# Altium footprint library ResCap_smd.PcbLib: 21 footprints (part 1 of 2)
Each footprint in its own frame and in the unit in brackets; x right, y up, seen from the top. Pads: shape width x height; smd on the part's side, far side on the other; paste and mask are expansions set on the pad; w line width, h text height; cw(c..) or ccw(c..) is an arc to the next point about the centre after c.
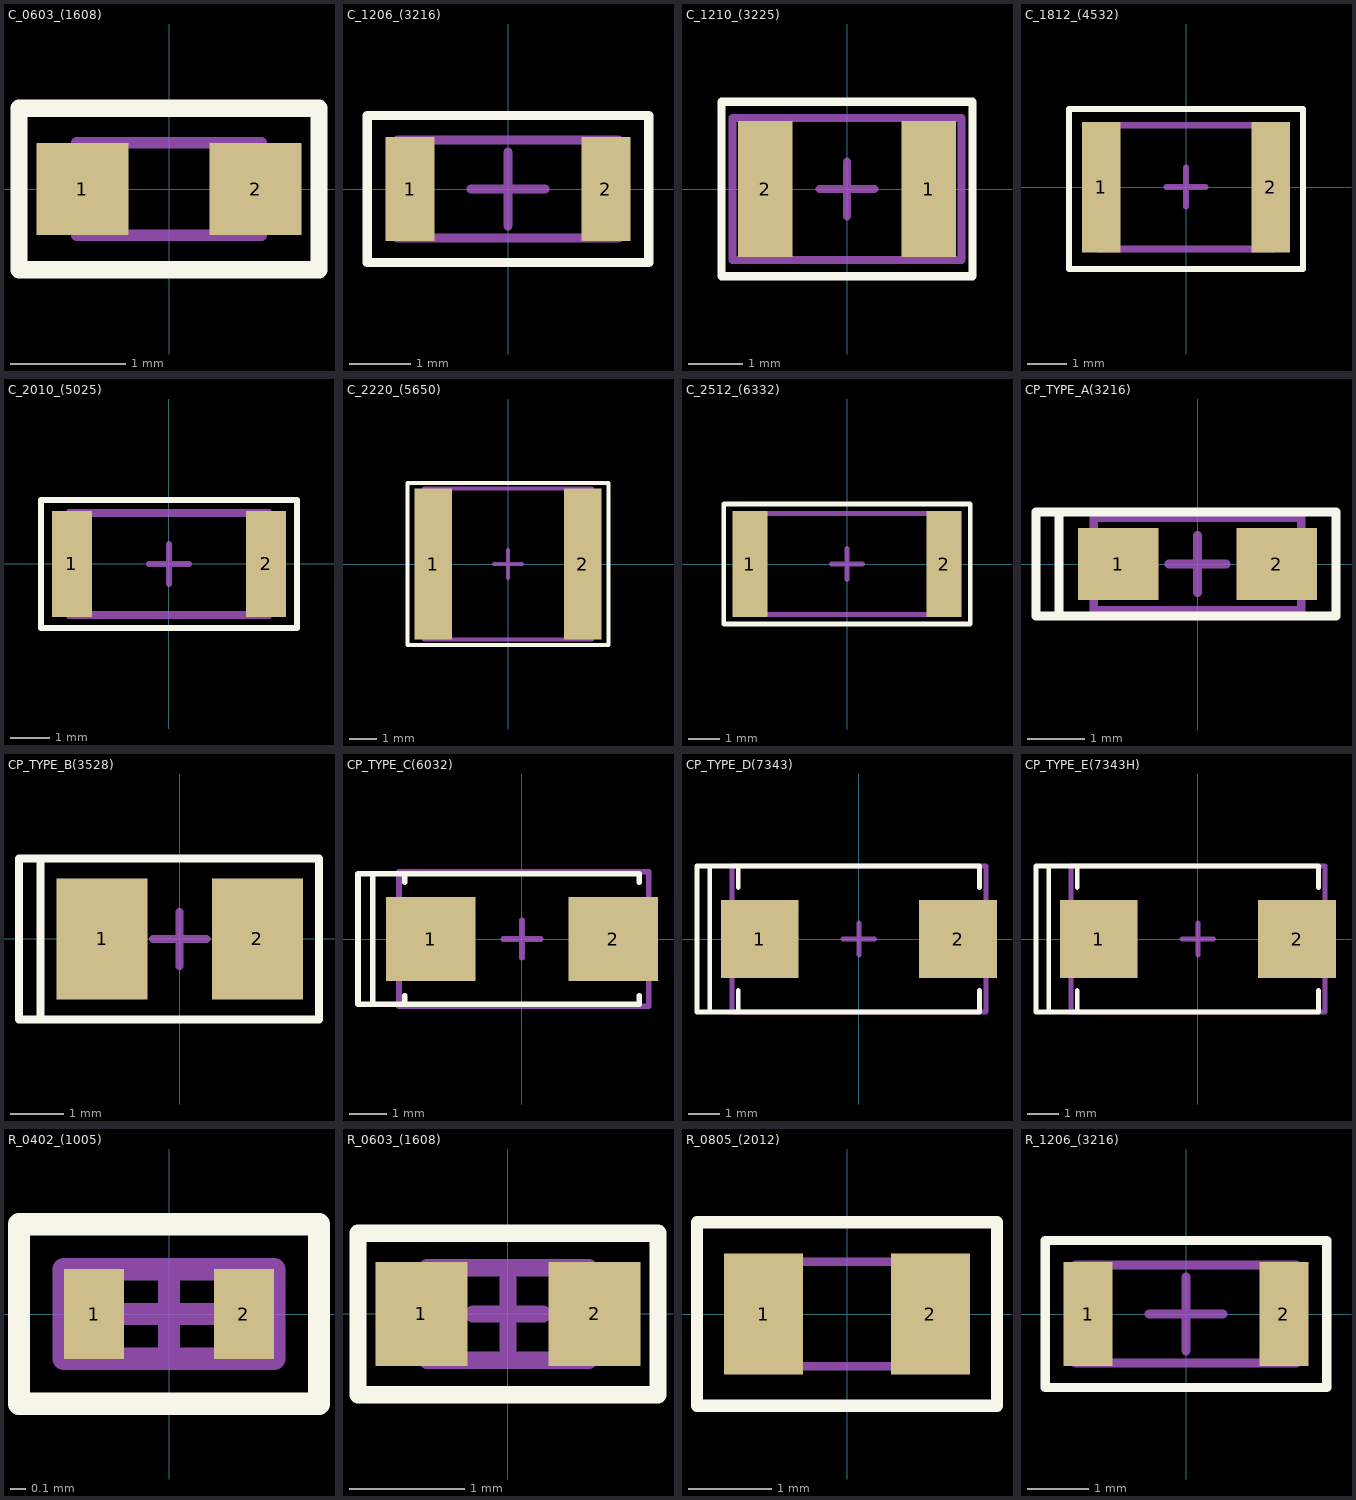
[diagram p0: the footprints below, top view; thin cyan lines are the x and y axes]

## C_0603_(1608) [mm]
pads (2):
  rect 0.8x0.8 smd: 1(-0.75,0) 2(0.75,0)
Top Overlay:
  lines w0.15: -1.3,-0.7 -1.3,0.7 1.3,0.7 1.3,-0.7 -1.3,-0.7
Mechanical 13:
  lines w0.1: -0.8,-0.4 -0.8,0.4 0.8,0.4 0.8,-0.4 -0.8,-0.4
3D body "VJ0603A2R7CCPAJ.stp": height 0.97, standoff 0, extent -0.8,-0.4 0.8,0.4

## C_1206_(3216) [mm]
pads (2):
  rect 0.8x1.7 smd: 1(-1.6,0) 2(1.6,0)
Top Overlay:
  lines w0.15: -2.3,-1.2 -2.3,1.2 2.2,1.2 2.3,1.2 2.3,-1.2 -2.3,-1.2
Top 3D Body:
  lines w0.15: -0.6,0 0.6,0 ; 0,-0.6 0,0.6 ; -1.8,-0.8 1.8,-0.8 1.8,0.8 -1.8,0.8 -1.8,-0.8
3D body: height 0.8, standoff 0, extent 0.9,-0.8 1.7,0.8
3D body: height 0.8, standoff 0, extent -0.9,-0.8 0.9,0.8
3D body: height 0.8, standoff 0, extent -1.7,-0.8 -0.9,0.8

## C_1210_(3225) [mm]
pads (2):
  rect 1x2.5 smd: 1(1.5,0) 2(-1.5,0)
Top Overlay:
  lines w0.15: -2.3,-1.6 2.3,-1.6 2.3,1.6 -2.3,1.6 -2.3,-1.6
Top 3D Body:
  lines w0.15: -0.5,0 0.5,0 ; 0,-0.5 0,0.5 ; -2.1,-1.3 2.1,-1.3 2.1,1.3 -2.1,1.3 -2.1,-1.3
3D body: height 1.6, standoff 0, extent 0.9,-1.3 2,1.3
3D body: height 1.6, standoff 0, extent -0.9,-1.3 0.9,1.3
3D body: height 1.6, standoff 0, extent -2,-1.3 -0.9,1.3

## C_1812_(4532) [mm]
pads (2):
  rect 1x3.35 smd: 1(-2.175,0) 2(2.175,0)
Top Overlay:
  lines w0.15: -3,-2.1 3,-2.1 3,2 -3,2 -3,-2.1
Top 3D Body:
  lines w0.15: -0.5,0 0.5,0 ; 0,-0.5 0,0.5 ; -2.3,-1.575 2.3,-1.575 2.3,1.575 -2.3,1.575 -2.3,-1.575
Mechanical 29:
  lines w0.15: -2.25,-1.6 2.25,-1.6 2.25,1.6 -2.25,1.6 -2.25,-1.6
  text ".Designator" at -2,-0.4 h1
3D body "C1812C.step": height 1, standoff 0, extent -2.25,-1.6 2.25,1.6

## C_2010_(5025) [mm]
pads (2):
  rect 1x2.65 smd: 1(-2.425,0) 2(2.425,0)
Top Overlay:
  lines w0.15: -3.2,-1.6 -3.2,1.6 3.2,1.6 3.2,-1.6 -3.2,-1.6
Top 3D Body:
  lines w0.15: -0.5,0 0.5,0 ; 0,-0.5 0,0.5 ; -2.5,-1.3 2.5,-1.3 2.5,1.3 -2.5,1.3 -2.5,-1.3
Mechanical 29:
  lines w0.15: -2.5,-1.25 2.5,-1.25 2.5,1.25 -2.5,1.25 -2.5,-1.25
  text ".Designator" at -2.2,-0.3 h1
3D body "C2010C.step": height 0.55, standoff 0, extent -2.5,-1.25 2.5,1.25

## C_2220_(5650) [mm]
pads (2):
  rect 1.35x5.4 smd: 1(-2.675,0) 2(2.675,0)
Top Overlay:
  lines w0.15: -3.6,-2.9 3.6,-2.9 3.6,2.9 -3.6,2.9 -3.6,-2.9
Top 3D Body:
  lines w0.15: -0.5,0 0.5,0 ; 0,-0.5 0,0.5 ; -3,-2.7 -3,2.7 3,2.7 3,-2.7 -3,-2.7
Mechanical 29:
  lines w0.15: -3,-2.7 -3,2.7 3,2.7 3,-2.7 -3,-2.7
  text ".Designator" at -2.5,-0.4 h1
3D body "C2220C.step": height 2.5, standoff 0, extent -3,-2.7 3,2.7

## C_2512_(6332) [mm]
pads (2):
  rect 1.1x3.35 smd: 1(-3.075,0) 2(3.075,0)
Top Overlay:
  lines w0.15: -3.9,-1.9 3.9,-1.9 3.9,1.9 -3.9,1.9 -3.9,-1.9
Top 3D Body:
  lines w0.15: -0.5,0 0.5,0 ; 0,-0.5 0,0.5 ; -3.2,-1.6 3.2,-1.6 3.2,1.6 -3.2,1.6 -3.2,-1.6
Mechanical 29:
  lines w0.15: -3.2,-1.6 3.2,-1.6 3.2,1.6 -3.2,1.6 -3.2,-1.6
  text ".Designator" at -2.6,-0.3 h1
3D body "C2512C.step": height 2, standoff 0, extent -3.2,-1.6 3.2,1.6

## CP_TYPE_A(3216) [mm]
pads (2):
  rect 1.4x1.25 smd: 1(-1.375,0) 2(1.375,0)
Top Overlay:
  lines w0.15: -2.4,-0.9 -2.8,-0.9 -2.8,0.9 -2.4,0.9 ; -2.4,-0.9 -2.4,0.9 ; -2.4,-0.9 2.4,-0.9 2.4,0.9 0.5,0.9 -2.4,0.9
Top 3D Body:
  lines w0.15: -0.5,0 0.5,0 ; 0,-0.5 0,0.5 ; -1.8,-0.8 -1.8,0.8 1.8,0.8 1.8,-0.8 -1.8,-0.8
3D body "3216-18(A).step": height 1.6, standoff 0, extent -1.82,-0.8 1.82,0.8

## CP_TYPE_B(3528) [mm]
pads (2):
  rect 1.7x2.25 smd: 1(-1.45,0) 2(1.45,0)
Top Overlay:
  lines w0.15: -2.6,-1.5 2.6,-1.5 2.6,1.5 -2.6,1.5 ; -2.6,-1.5 -2.6,1.5 ; -2.6,-1.5 -3,-1.5 -3,1.5 -2.6,1.5
Top 3D Body:
  lines w0.15: -0.5,0 0.5,0 ; 0,-0.5 0,0.5
3D body "CAPMP3629X21N.step": height 2.1, standoff 0, extent -2.07,-1.5 2.07,1.5

## CP_TYPE_C(6032) [mm]
pads (2):
  rect 2.4x2.25 smd: 1(-2.45,0) 2(2.45,0)
Top Overlay:
  lines w0.15: -3.15,-1.525 -3.15,-1.75 ; -3.15,1.525 -3.15,1.75 ; 3.15,-1.525 3.15,-1.75 -3.15,-1.75 ; 3.15,1.525 3.15,1.75 -3.15,1.75 ; -4,-1.75 -3.15,-1.75 ; -4,-1.75 -4,1.75 ; -4,-1.75 -4.4,-1.75 -4.4,1.75 -4,1.75 ; -4,1.75 -3.15,1.75
Top 3D Body:
  lines w0.15: -0.5,0 0.5,0 ; 0,-0.5 0,0.5 ; -3.3,-1.8 -3.3,1.8 3.4,1.8 3.4,-1.8 -3.3,-1.8
3D body "CAPMP6134X28N.step": height 2.8, standoff 0, extent -3.37,-1.75 3.37,1.75

## CP_TYPE_D(7343) [mm]
pads (2):
  rect 2.45x2.45 smd: 1(-3.125,0) 2(3.125,0)
Top Overlay:
  lines w0.15: -3.8,-1.625 -3.8,-2.3 ; -3.8,1.625 -3.8,2.3 ; 3.8,-1.625 3.8,-2.3 -3.8,-2.3 ; 3.8,1.625 3.8,2.3 -3.8,2.3 ; -5.1,2.3 -4.7,2.3 ; -5.1,2.3 -5.1,2.3 ; -5.1,2.3 -5.1,-2.3 -4.7,-2.3 ; -4.7,-2.3 -3.8,-2.3 ; -4.7,-2.3 -4.7,2.3 ; -4.7,2.3 -3.8,2.3
Top 3D Body:
  lines w0.15: -0.5,0 0.5,0 ; 0,-0.5 0,0.5 ; -4,-2.3 4,-2.3 4,2.3 -4,2.3 -4,-2.3
3D body "CAPMP7444X31N.step": height 3.1, standoff 0, extent -4.02,-2.3 4.02,2.3

## CP_TYPE_E(7343H) [mm]
pads (2):
  rect 2.45x2.45 smd: 1(-3.125,0) 2(3.125,0)
Top Overlay:
  lines w0.15: -3.8,-1.625 -3.8,-2.3 ; -3.8,1.625 -3.8,2.3 ; 3.8,-1.625 3.8,-2.3 -3.8,-2.3 ; 3.8,1.625 3.8,2.3 -3.8,2.3 ; -4.7,-2.3 -4.7,2.3 ; -4.7,-2.3 -3.8,-2.3 ; -4.7,-2.3 -5.1,-2.3 -5.1,2.3 -4.7,2.3 ; -4.7,2.3 -3.8,2.3
Top 3D Body:
  lines w0.15: -0.5,0 0.5,0 ; 0,-0.5 0,0.5 ; -4,-2.3 -4,2.3 4,2.3 4,-2.3 -4,-2.3
3D body "CAPMP7444X43N.step": height 4.3, standoff 0, extent -4.02,-2.3 4.02,2.3

## R_0402_(1005) [mm]
pads (2):
  rect 0.4x0.6 smd: 1(-0.5,0) 2(0.5,0)
Top Overlay:
  lines w0.15: -1,-0.6 -1,0.6 1,0.6 1,-0.6 -1,-0.6
Top 3D Body:
  lines w0.15: -0.3,0 0.3,0 ; 0,-0.3 0,0.3 ; -0.7,-0.3 -0.7,0.3 0.7,0.3 0.7,-0.3 -0.7,-0.3
3D body "0402R.STEP": height 0.34, standoff 0, extent -0.52,-0.3 0.52,0.3

## R_0603_(1608) [mm]
pads (2):
  rect 0.8x0.9 smd: 1(-0.75,0) 2(0.75,0)
Top Overlay:
  lines w0.15: -1.3,-0.7 1.3,-0.7 1.3,0.7 -1.3,0.7 -1.3,-0.7
Top 3D Body:
  lines w0.15: -0.3,0 0.3,0 ; 0,-0.3 0,0.3 ; -0.7,-0.4 0.7,-0.4 0.7,0.4 -0.7,0.4 -0.7,-0.4
Mechanical 13:
  lines w0.1: -0.8,-0.4 0.8,-0.4 0.8,0.4 -0.8,0.4 -0.8,-0.4
3D body: height 0.45, standoff 0, extent -0.5,-0.41 0.5,0.41
3D body: height 0.45, standoff 0, extent -0.7,-0.41 -0.5,0.41
3D body: height 0.45, standoff 0, extent 0.5,-0.41 0.7,0.41

## R_0805_(2012) [mm]
pads (2):
  rect 0.95x1.45 smd: 1(-1,0) 2(1,0)
Top Overlay:
  lines w0.15: -1.8,-1.1 -1.8,1.1 1.8,1.1 1.8,-1.1 -1.8,-1.1
Mechanical 13:
  lines w0.1: -1.025,-0.625 -1.025,0.625 1.025,0.625 1.025,-0.625 -1.025,-0.625
3D body "CRCW08051R20JNEA.stp": height 0.5, standoff 0, extent -1.025,-0.625 1.025,0.625

## R_1206_(3216) [mm]
pads (2):
  rect 0.8x1.7 smd: 1(-1.6,0) 2(1.6,0)
Top Overlay:
  lines w0.15: -2.3,-1.2 -2.3,1.2 2.3,1.2 2.3,-1.2 -2.3,-1.2
Top 3D Body:
  lines w0.15: -0.6,0 0.6,0 ; 0,-0.6 0,0.6 ; -1.8,-0.8 -1.8,0.8 1.8,0.8 1.8,-0.8 -1.8,-0.8
3D body: height 0.8, standoff 0, extent 0.9,-0.8 1.7,0.8
3D body: height 0.8, standoff 0, extent -0.9,-0.8 0.9,0.8
3D body: height 0.8, standoff 0, extent -1.7,-0.8 -0.9,0.8